# Altium schematic symbol library gataway.SchLib: 1 symbol
Pins are listed as number, name and electrical type; pins without a type are passive.

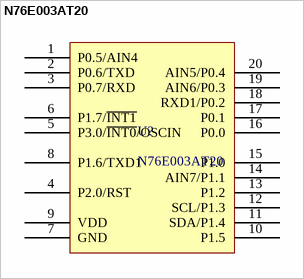
[diagram p0: symbol N76E003AT20]

## N76E003AT20
designator U?
footprint TSSOP20 (Shrink Small Outline; 20 Leads; Body Width 4.4 mm; Pitch 0.65 mm)
pins: 1 P0.5/AIN4, 2 P0.6/TXD, 3 P0.7/RXD, 4 P2.0/RST, 5 P3.0/~{INT0}/OSCIN, 6 P1.7/~{INT1}, 7 GND, 8 P1.6/TXD1, 9 VDD, 10 P1.5, 11 SDA/P1.4, 12 SCL/P1.3, 13 P1.2, 14 AIN7/P1.1, 15 P1.0, 16 P0.0, 17 P0.1, 18 RXD1/P0.2, 19 AIN6/P0.3, 20 AIN5/P0.4